# Altium schematic symbol library CR0805-FX-1001ELF.SchLib: 1 symbol
Pins are listed as number, name and electrical type; pins without a type are passive.

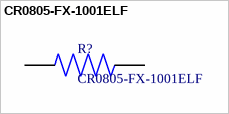
[diagram p0: symbol CR0805-FX-1001ELF]

## CR0805-FX-1001ELF
designator R?
1 kOhms ±1% 0.125W, 1/8W Chip Resistor 0805; Value: 1k; Tolerance: ±1%
footprint CR0805-FX-1001ELF
pins: 1, 1, 2, 2